# Altium schematic symbol library DMG2305UX-7.SchLib: 1 symbol
Pins are listed as number, name and electrical type; pins without a type are passive.

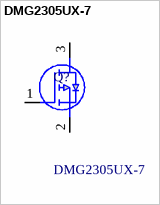
[diagram p0: symbol DMG2305UX-7]

## DMG2305UX-7
designator Q?
MOSFET P-Ch 20V 5A Enhancement SOT23 Diodes Inc DMG2305UX-7 P-channel MOSFET Transistor, -3.3 A, -20 V, 3-Pin SOT-23; Manufacturer_Name: Diodes Inc.; Geometry.Height: 1.1mm; Mouser Part Number: 621-DMG2305UX-7; Mouser Price/Stock: https://www.mouser.co.uk/ProductDetail/Diodes-Incorporated/DMG2305UX-7?qs=L1DZKBg7t5F%2FNBHrjfxC%252Bg%3D%3D; Manufacturer_Part_Number: DMG2305UX-7; Datasheet Link: https://www.diodes.com/assets/Datasheets/DMG2305UX.pdf
footprint SOT96P240X110-3N
pins: 1 G, 2 S, 3 D